# Altium footprint library STM32F407_CORE.PcbLib: 29 footprints (part 1 of 2)
Each footprint in its own frame and in the unit in brackets; x right, y up, seen from the top. Pads: shape width x height; smd on the part's side, far side on the other; paste and mask are expansions set on the pad; w line width, h text height; cw(c..) or ccw(c..) is an arc to the next point about the centre after c.
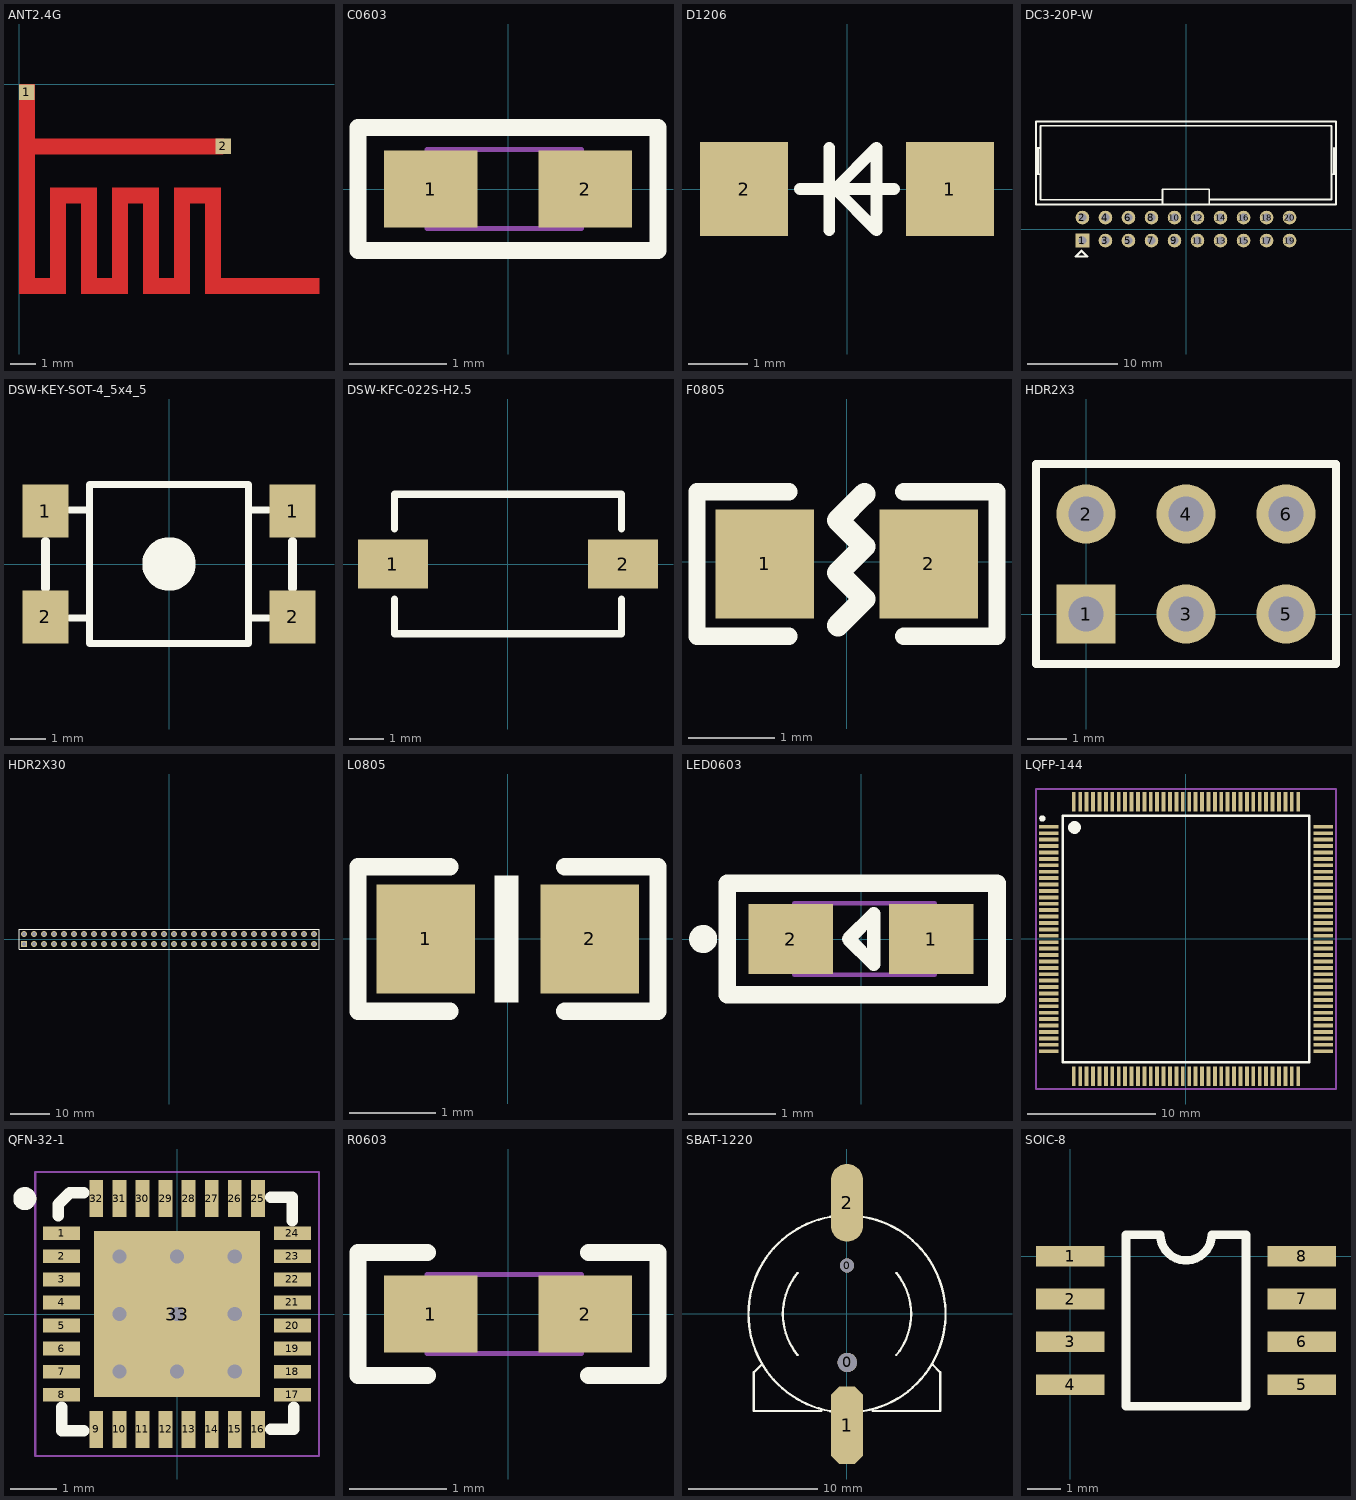
[diagram p0: the footprints below, top view; thin cyan lines are the x and y axes]

## ANT2.4G [mm]
pads (2):
  rect 0.6x0.6 smd: 1(0.3,-0.3) 2(7.9,-2.4)
Top Layer:
  region: 0,-8.1 0,0 0.6,0 0.6,-2.1 7.9,-2.1 7.9,-2.7 0.6,-2.7 0.6,-7.5 1.2,-7.5 1.2,-4 3,-4 3,-7.5 3.6,-7.5 3.6,-4 5.4,-4 5.4,-7.5 6,-7.5 6,-4 7.8,-4 7.8,-7.5 11.6,-7.5 11.6,-8.1 7.2,-8.1 7.2,-4.6 6.6,-4.6 6.6,-8.1 4.8,-8.1 4.8,-4.6 4.2,-4.6 4.2,-8.1 2.4,-8.1 2.4,-4.6 1.8,-4.6 1.8,-8.1
Top Solder:
  region: 0,-8.1 0,0 0.6,0 0.6,-2.1 7.9,-2.1 7.9,-2.7 0.6,-2.7 0.6,-7.5 1.2,-7.5 1.2,-4 3,-4 3,-7.5 3.6,-7.5 3.6,-4 5.4,-4 5.4,-7.5 6,-7.5 6,-4 7.8,-4 7.8,-7.5 11.6,-7.5 11.6,-8.1 7.2,-8.1 7.2,-4.6 6.6,-4.6 6.6,-8.1 4.8,-8.1 4.8,-4.6 4.2,-4.6 4.2,-8.1 2.4,-8.1 2.4,-4.6 1.8,-4.6 1.8,-8.1

## C0603 [mm]
pads (2):
  rect 0.965x0.8 smd: 1(-0.8,0) 2(0.8,0)
Top Overlay:
  lines w0.178: -1.549,-0.635 -1.549,0.635 1.549,0.635 1.549,-0.635 -1.549,-0.635
Mechanical 13:
  lines w0.05: -0.838,-0.406 -0.838,0.406 0.762,0.406 0.762,-0.406 -0.838,-0.406
3D body "User Library-Chip Cap_MLCC_0603 (1608).STEP": height 0.5, standoff 0, extent -0.838,-0.394 0.762,0.406

## D1206 [mm]
pads (2):
  rect 1.5x1.6 smd: 1(1.75,0) 2(-1.75,0)
Top Overlay:
  lines w0.2: -0.8,0 0.8,0 ; -0.3,-0.7 -0.3,0.7 ; -0.2,0 0.5,-0.7 0.5,0.7 -0.2,0
3D body "SOD-80.STEP": height 1.5, standoff 0, extent -1.75,-0.75 1.75,0.75

## DC3-20P-W [mm]
pads (20):
  rect 1.5x1.5 hole 0.9: 1(-11.43,-1.27)
  round 1.5 hole 0.9: 2(-11.43,1.27) 3(-8.89,-1.27) 4(-8.89,1.27) 5(-6.35,-1.27) 6(-6.35,1.27) 7(-3.81,-1.27) 8(-3.81,1.27) 9(-1.27,-1.27) 10(-1.27,1.27) 11(1.27,-1.27) 12(1.27,1.27) 13(3.81,-1.27) 14(3.81,1.27) 15(6.35,-1.27) 16(6.35,1.27) 17(8.89,-1.27) 18(8.89,1.27) 19(11.43,-1.27) 20(11.43,1.27)
Top Overlay:
  lines w0.2: -16.561,6.045 -16.053,6.045 ; -16.561,8.941 -16.053,8.941 ; -16.332,6.071 -16.332,8.941 ; -2.61,3.226 -16.053,3.226 -16.053,11.405 16.053,11.405 16.053,3.251 2.57,3.251 ; -2.591,2.718 -2.591,4.394 2.565,4.394 2.565,2.769 ; 16.053,6.045 16.561,6.045 ; 16.332,6.071 16.332,8.941 ; -16.561,2.718 -16.561,11.862 16.561,11.862 16.561,2.718 -16.561,2.718
  lines w0.25: -12.167,-3.023 -11.532,-2.388 -10.897,-3.023 -12.167,-3.023
3D body "02m6204_5103310-5.STEP": height 9.17, standoff -3.4, extent -16.51,-1.55 16.51,10.902

## DSW-KEY-SOT-4_5x4_5 [mm]
pads (4):
  rect 1.3x1.5 smd: 1(-3.5,1.5) 1(3.5,1.5) 2(-3.5,-1.5) 2(3.5,-1.5)
Top Overlay:
  circle w0.8: c0,0 r0.356
  lines w0.2: -2.819,-1.524 -2.261,-1.524 ; -2.819,1.524 -2.261,1.524 ; -2.25,-2.25 -2.25,2.25 2.225,2.25 ; -2.225,-2.25 2.25,-2.25 2.25,2.25 ; 2.261,-1.524 2.819,-1.524 ; 2.261,1.524 2.819,1.524
  lines w0.254: -3.5,0.636 -3.499,-0.684 ; 3.499,-0.684 3.5,0.636
3D body "SW-Button-4.5x4.5.STEP": height 3.5, standoff 0, extent -4,-2.25 4,2.25

## DSW-KFC-022S-H2.5 [mm]
pads (2):
  rect 2x1.4 smd: 1(-3.3,0) 2(3.3,0)
Top Overlay:
  lines w0.203: -3.251,-1 -3.251,-2 3.251,-2 ; -3.251,1 -3.251,2 3.251,2 3.251,1 ; 3.251,-2 3.251,-1 3.251,-2
3D body "零件1.STEP": height 2.5, standoff 0, extent -4.073,-1.8 3.927,1.8

## F0805 [mm]
pads (2):
  rect 1.14x1.27 smd: 1(-0.95,-0.025) 2(0.95,-0.025)
Top Overlay:
  lines w0.2: -0.671,-0.864 -1.737,-0.864 -1.737,0.813 -0.671,0.813 ; 0.66,-0.864 1.742,-0.864 1.742,0.813 0.66,0.813
  lines w0.254: -0.102,-0.737 0.203,-0.432 -0.102,-0.127 0.203,0.178 -0.102,0.483 0.203,0.787
3D body "68916.STEP": height 0.66, standoff 0, extent -1.075,-0.675 1.075,0.675

## HDR2X3 [mm]
pads (6):
  rect 1.5x1.5 hole 0.9: 1(0,0)
  round 1.5 hole 0.9: 2(0,2.54) 3(2.54,0) 4(2.54,2.54) 5(5.08,0) 6(5.08,2.54)
Top Overlay:
  lines w0.2: 1.482,-1.27 6.35,-1.27 ; 6.35,-1.27 6.35,3.81 -1.27,3.81 -1.27,-1.27 6.35,-1.27
3D body "HEADER 3X2.STEP": height 10.1, standoff -1.5, extent -1.27,-1.27 6.35,3.81

## HDR2X30 [mm]
pads (60):
  rect 1.5x1.5 hole 0.9: 1(-36.83,-1.27)
  round 1.5 hole 0.9: 2(-36.83,1.27) 3(-34.29,-1.27) 4(-34.29,1.27) 5(-31.75,-1.27) 6(-31.75,1.27) 7(-29.21,-1.27) 8(-29.21,1.27) 9(-26.67,-1.27) 10(-26.67,1.27) 11(-24.13,-1.27) 12(-24.13,1.27) 13(-21.59,-1.27) 14(-21.59,1.27) 15(-19.05,-1.27) 16(-19.05,1.27) 17(-16.51,-1.27) 18(-16.51,1.27) 19(-13.97,-1.27) 20(-13.97,1.27) 21(-11.43,-1.27) 22(-11.43,1.27) 23(-8.89,-1.27) 24(-8.89,1.27) 25(-6.35,-1.27) 26(-6.35,1.27) 27(-3.81,-1.27) 28(-3.81,1.27) 29(-1.27,-1.27) 30(-1.27,1.27) 31(1.27,-1.27) 32(1.27,1.27) 33(3.81,-1.27) 34(3.81,1.27) 35(6.35,-1.27) 36(6.35,1.27) 37(8.89,-1.27) 38(8.89,1.27) 39(11.43,-1.27) 40(11.43,1.27) 41(13.97,-1.27) 42(13.97,1.27) 43(16.51,-1.27) 44(16.51,1.27) 45(19.05,-1.27) 46(19.05,1.27) 47(21.59,-1.27) 48(21.59,1.27) 49(24.13,-1.27) 50(24.13,1.27) 51(26.67,-1.27) 52(26.67,1.27) 53(29.21,-1.27) 54(29.21,1.27) 55(31.75,-1.27) 56(31.75,1.27) 57(34.29,-1.27) 58(34.29,1.27) 59(36.83,-1.27) 60(36.83,1.27)
Top Overlay:
  lines w0.2: 38.09,2.54 -38.1,2.54 -38.1,-2.54 38.1,-2.54 38.1,2.54
3D body "装配体1.STEP": height 8.57, standoff -2.97, extent -38.101,-2.606 -12.701,2.474
3D body "装配体1.STEP": height 8.57, standoff -2.97, extent -12.701,-2.606 12.699,2.474
3D body "装配体1.STEP": height 8.57, standoff -2.97, extent 12.699,-2.606 38.099,2.474

## L0805 [mm]
pads (2):
  rect 1.14x1.27 smd: 1(-0.95,0) 2(0.95,0)
Top Overlay:
  rectangle: -0.152,-0.737 0.127,0.737
  lines w0.2: -0.671,-0.838 -1.737,-0.838 -1.737,0.838 -0.671,0.838 ; 0.66,-0.838 1.742,-0.838 1.742,0.838 0.66,0.838
3D body "INDC2012(0805).STEP": height 0.94, standoff -0.01, extent -1,-0.6 1,0.6

## LED0603 [mm]
pads (2):
  rect 0.965x0.8 smd: 1(0.8,0) 2(-0.8,0)
Top Overlay:
  circle w0.178: c-1.8,0 r0.07
  lines w0.152: -0.144,0 0.146,-0.289 0.146,0.289 -0.144,0
  lines w0.2: -1.527,-0.635 1.549,-0.635 1.549,0.635 -1.527,0.635 -1.527,-0.635
Mechanical 13:
  lines w0.05: -0.762,-0.406 0.838,-0.406 0.838,0.406 -0.762,0.406 -0.762,-0.406
3D body "User Library-LED_0603_B.STEP": height 0.6, standoff 0, extent -0.8,-0.4 0.8,0.4

## LQFP-144 [mm]
pads (144):
  rect 1.5x0.3 smd: 1(-10.7,8.75) 2(-10.7,8.25) 3(-10.7,7.75) 4(-10.7,7.25) 5(-10.7,6.75) 6(-10.7,6.25) 7(-10.7,5.75) 8(-10.7,5.25) 9(-10.7,4.75) 10(-10.7,4.25) 11(-10.7,3.75) 12(-10.7,3.25) 13(-10.7,2.75) 14(-10.7,2.25) 15(-10.7,1.75) 16(-10.7,1.25) 17(-10.7,0.75) 18(-10.7,0.25) 19(-10.7,-0.25) 20(-10.7,-0.75) 21(-10.7,-1.25) 22(-10.7,-1.75) 23(-10.7,-2.25) 24(-10.7,-2.75) 25(-10.7,-3.25) 26(-10.7,-3.75) 27(-10.7,-4.25) 28(-10.7,-4.75) 29(-10.7,-5.25) 30(-10.7,-5.75) 31(-10.7,-6.25) 32(-10.7,-6.75) 33(-10.7,-7.25) 34(-10.7,-7.75) 35(-10.7,-8.25) 36(-10.7,-8.75) 73(10.7,-8.75) 74(10.7,-8.25) 75(10.7,-7.75) 76(10.7,-7.25) 77(10.7,-6.75) 78(10.7,-6.25) 79(10.7,-5.75) 80(10.7,-5.25) 81(10.7,-4.75) 82(10.7,-4.25) 83(10.7,-3.75) 84(10.7,-3.25) 85(10.7,-2.75) 86(10.7,-2.25) 87(10.7,-1.75) 88(10.7,-1.25) 89(10.7,-0.75) 90(10.7,-0.25) 91(10.7,0.25) 92(10.7,0.75) 93(10.7,1.25) 94(10.7,1.75) 95(10.7,2.25) 96(10.7,2.75) 97(10.7,3.25) 98(10.7,3.75) 99(10.7,4.25) 100(10.7,4.75) 101(10.7,5.25) 102(10.7,5.75) 103(10.7,6.25) 104(10.7,6.75) 105(10.7,7.25) 106(10.7,7.75) 107(10.7,8.25) 108(10.7,8.75)
  rect 0.3x1.5 smd: 37(-8.75,-10.7) 38(-8.25,-10.7) 39(-7.75,-10.7) 40(-7.25,-10.7) 41(-6.75,-10.7) 42(-6.25,-10.7) 43(-5.75,-10.7) 44(-5.25,-10.7) 45(-4.75,-10.7) 46(-4.25,-10.7) 47(-3.75,-10.7) 48(-3.25,-10.7) 49(-2.75,-10.7) 50(-2.25,-10.7) 51(-1.75,-10.7) 52(-1.25,-10.7) 53(-0.75,-10.7) 54(-0.25,-10.7) 55(0.25,-10.7) 56(0.75,-10.7) 57(1.25,-10.7) 58(1.75,-10.7) 59(2.25,-10.7) 60(2.75,-10.7) 61(3.25,-10.7) 62(3.75,-10.7) 63(4.25,-10.7) 64(4.75,-10.7) 65(5.25,-10.7) 66(5.75,-10.7) 67(6.25,-10.7) 68(6.75,-10.7) 69(7.25,-10.7) 70(7.75,-10.7) 71(8.25,-10.7) 72(8.75,-10.7) 109(8.75,10.7) 110(8.25,10.7) 111(7.75,10.7) 112(7.25,10.7) 113(6.75,10.7) 114(6.25,10.7) 115(5.75,10.7) 116(5.25,10.7) 117(4.75,10.7) 118(4.25,10.7) 119(3.75,10.7) 120(3.25,10.7) 121(2.75,10.7) 122(2.25,10.7) 123(1.75,10.7) 124(1.25,10.7) 125(0.75,10.7) 126(0.25,10.7) 127(-0.25,10.7) 128(-0.75,10.7) 129(-1.25,10.7) 130(-1.75,10.7) 131(-2.25,10.7) 132(-2.75,10.7) 133(-3.25,10.7) 134(-3.75,10.7) 135(-4.25,10.7) 136(-4.75,10.7) 137(-5.25,10.7) 138(-5.75,10.7) 139(-6.25,10.7) 140(-6.75,10.7) 141(-7.25,10.7) 142(-7.75,10.7) 143(-8.25,10.7) 144(-8.75,10.7)
Top Overlay:
  circle w0.25: c-11.2,9.4 r0.125
  circle w0.5: c-8.7,8.7 r0.25
  lines w0.2: -9.6,-9.6 9.6,-9.6 9.6,9.6 -9.6,9.6 -9.6,-9.6
Mechanical 13:
  lines w0.127: -11.7,-11.7 11.7,-11.7 11.7,11.7 -11.7,11.7 -11.7,-11.7
3D body "User Library-LQFP144-2.STEP": height 1.6, standoff 0, extent -11.075,-11.075 11.075,11.075

## QFN-32-1 [mm]
pads (33):
  rect 0.8x0.3 smd: 1(-2.5,1.75) 2(-2.5,1.25) 3(-2.5,0.75) 4(-2.5,0.25) 5(-2.5,-0.25) 6(-2.5,-0.75) 7(-2.5,-1.25) 8(-2.5,-1.75) 17(2.5,-1.75) 18(2.5,-1.25) 19(2.5,-0.75) 20(2.5,-0.25) 21(2.5,0.25) 22(2.5,0.75) 23(2.5,1.25) 24(2.5,1.75)
  rect 0.3x0.8 smd: 9(-1.75,-2.5) 10(-1.25,-2.5) 11(-0.75,-2.5) 12(-0.25,-2.5) 13(0.25,-2.5) 14(0.75,-2.5) 15(1.25,-2.5) 16(1.75,-2.5) 25(1.75,2.5) 26(1.25,2.5) 27(0.75,2.5) 28(0.25,2.5) 29(-0.25,2.5) 30(-0.75,2.5) 31(-1.25,2.5) 32(-1.75,2.5)
  rect 3.6x3.6 smd: 33(0,0)
via -1.25,-1.25 diameter 0.508 hole 0.305
via 0,-1.25 diameter 0.508 hole 0.305
via 1.25,-1.25 diameter 0.508 hole 0.305
via 1.25,1.25 diameter 0.508 hole 0.305
via 0,1.25 diameter 0.508 hole 0.305
via -1.25,1.25 diameter 0.508 hole 0.305
via -1.25,0 diameter 0.508 hole 0.305
via 1.25,0 diameter 0.508 hole 0.305
via 0,0 diameter 0.508 hole 0.305
Top Overlay:
  circle w0.25: c-3.3,2.5 r0.125
  lines w0.25: -2.575,2.125 -2.575,2.375 -2.325,2.625 -2.25,2.625 -2.025,2.625 ; -2.5,-2.025 -2.5,-2.525 -2.025,-2.525 ; 2.025,-2.5 2.525,-2.5 2.525,-2.025 ; 2.025,2.525 2.5,2.525 2.5,2.025
Mechanical 15:
  lines w0.05: -3.075,-3.075 3.075,-3.075 3.075,3.075 -3.075,3.075 -3.075,-3.075
3D body "User Library-MAX9984.STEP": height 0.74, standoff -0.01, extent -2.5,-2.5 2.5,2.5

## R0603 [mm]
pads (2):
  rect 0.965x0.8 smd: 1(-0.8,0) 2(0.8,0)
Top Overlay:
  lines w0.178: -0.835,-0.635 -1.549,-0.635 -1.549,0.635 -0.835,0.635 ; 0.835,-0.635 1.549,-0.635 1.549,0.635 0.835,0.635
Mechanical 13:
  lines w0.05: -0.838,-0.406 0.762,-0.406 0.762,0.406 -0.838,0.406 -0.838,-0.406
3D body "R0603.STEP": height 0.45, standoff 0, extent -0.8,-0.4 0.8,0.4

## SBAT-1220 [mm]
pads (4):
  round 1.1 hole 1.1 unplated: 0(0,3.748)
  round 1.5 hole 1.5 unplated: 0(0.025,-3.752)
  oct 2.5x6 smd: 1(0,-8.602)
  oval 2.5x6 smd: 2(0,8.598)
Top Overlay:
  lines w0.178: -6.6,-3.902 -7.2,-4.502 -7.2,-7.502 -2,-7.502 ; -3.815,-3.171 cw(c0,-0.002) -3.812,3.171 ; -0.833,-7.576 cw(c0,-0.002) -7.62,-0.002 cw(c0,-0.002) -0.833,7.573 ; 0.833,-7.576 ccw(c0,-0.002) 0.833,7.573 ; 2,-7.502 7.2,-7.502 7.2,-4.502 6.625,-3.927 ; 3.81,-3.177 ccw(c0,-0.002) 3.812,3.171
3D body "CR1220.STEP": height 4.05, standoff -0.89, extent -7.555,-8.971 7.442,9.529

## SOIC-8 [mil]
pads (8):
  rect 80x24 smd: 1(0,0) 2(0,-50.06) 3(0,-100.06) 4(0,-150.06) 5(270,-150) 6(270,-100) 7(270,-50) 8(270,0)
Top Overlay:
  lines w10: 75,24.94 75.06,25 105,25 ccw(c135,25) 165,25 204.94,25 205,24.94 205,-175.06 65,-175.06 65,24.94 95,24.94
3D body "SO-8.STEP": height 66.93, standoff 0, extent 18.71,-171.59 254.93,21.33